# Altium footprint library SMS-120-01-T-S.PcbLib: 1 footprints
Each footprint in its own frame and in the unit in brackets; x right, y up, seen from the top. Pads: shape width x height; smd on the part's side, far side on the other; paste and mask are expansions set on the pad; w line width, h text height; cw(c..) or ccw(c..) is an arc to the next point about the centre after c.
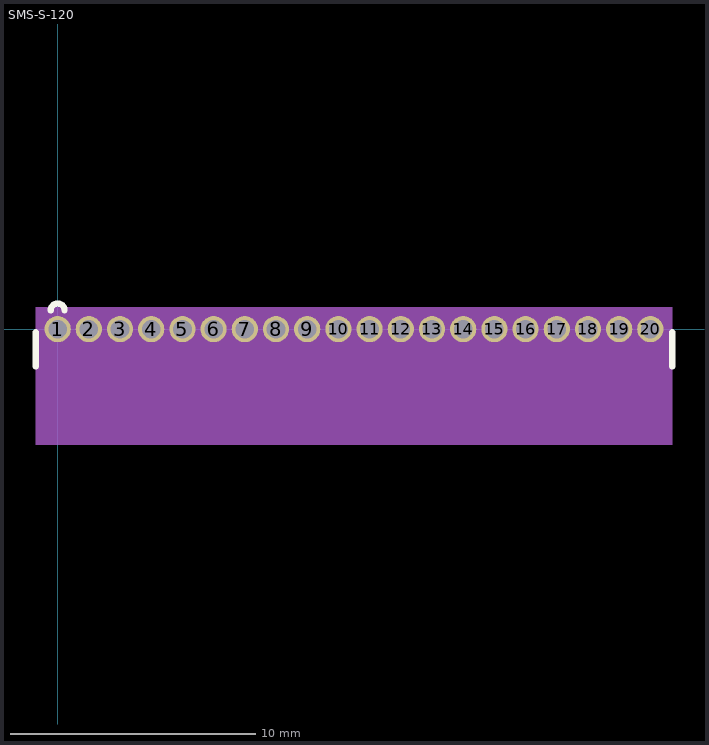
[diagram p0: the footprint, top view; thin cyan lines are the x and y axes]

## SMS-S-120 [mil]
pads (20):
  round 42 / inner round 60 / far side round 42 hole 30 paste-20 mask+4: 1(0,0) 2(50,0) 3(100,0) 4(150,0) 5(200,0) 6(250,0) 7(300,0) 8(350,0) 9(400,0) 10(450,0) 11(500,0) 12(550,0) 13(600,0) 14(650,0) 15(700,0) 16(750,0) 17(800,0) 18(850,0) 19(900,0) 20(950,0)
Top Overlay:
  lines w10: -35,-60 -35,-5 ; -11.18,30 cw(c0,30) 11.18,30 ; 985,-60 985,-5
Mechanical 13:
  lines w1: 980,-60 -30,-60 -30,30 985,30 985,-60
Mechanical 15:
  region: 985,35 -35,35 -35,-185 985,-185
3D body: height 70.87, standoff -110.24, extent -30,-181.73 985.75,1.73